# Altium footprint library ResistorSMD.PcbLib: 6 footprints
Each footprint in its own frame and in the unit in brackets; x right, y up, seen from the top. Pads: shape width x height; smd on the part's side, far side on the other; paste and mask are expansions set on the pad; w line width, h text height; cw(c..) or ccw(c..) is an arc to the next point about the centre after c.
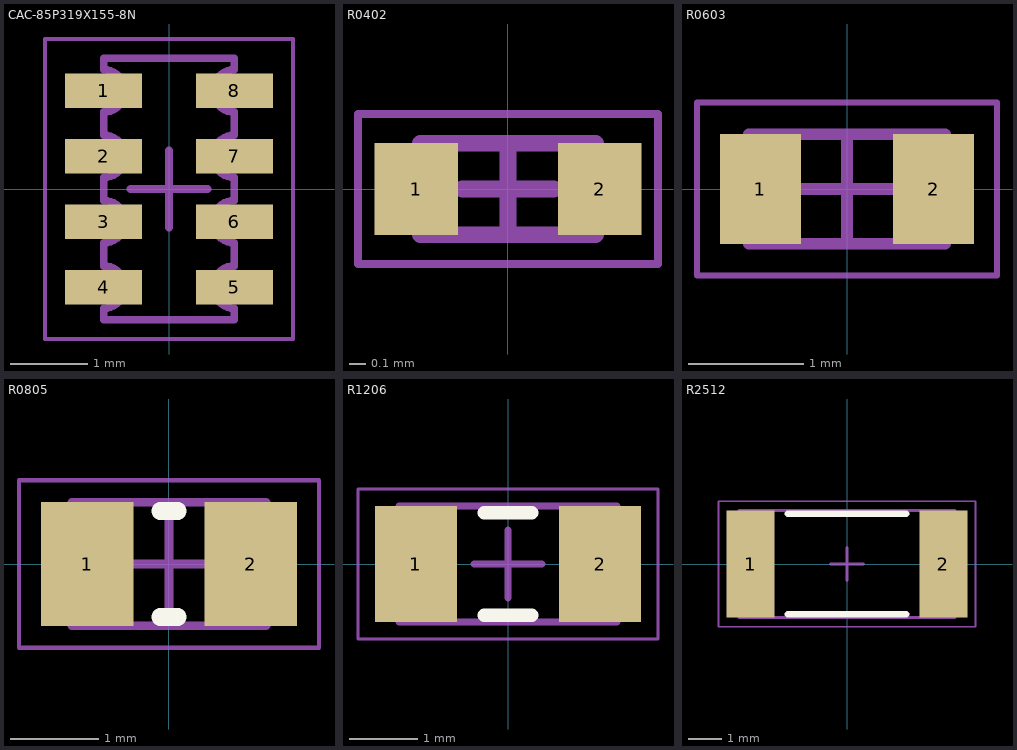
[diagram p0: the footprints below, top view; thin cyan lines are the x and y axes]

## CAC-85P319X155-8N [mm] "Chip Array, Concave, 8-Leads, Pitch 0,85mm,  Body 3,20x1,55mm,  IPC Medium Density"
height 0.6
pads (8):
  rect 1x0.45 smd: 1(-0.85,1.275) 2(-0.85,0.425) 3(-0.85,-0.425) 4(-0.85,-1.275) 5(0.85,-1.275) 6(0.85,-0.425) 7(0.85,0.425) 8(0.85,1.275)
Mechanical 13:
  lines w0.1: -0.85,-1.7 -0.85,-1.55 ccw(c-0.85,-1.275) -0.85,-1 -0.85,-0.7 ccw(c-0.85,-0.425) -0.85,-0.15 -0.85,0.15 ccw(c-0.85,0.425) -0.85,0.7 -0.85,1 ccw(c-0.85,1.275) -0.85,1.55 -0.85,1.7 0.85,1.7 0.85,1.55 ccw(c0.85,1.275) 0.85,1 0.85,0.7 ccw(c0.85,0.425) 0.85,0.15 0.85,-0.15 ccw(c0.85,-0.425) 0.85,-0.7 0.85,-1 ccw(c0.85,-1.275) 0.85,-1.55 0.85,-1.7 -0.85,-1.7
Mechanical 15:
  lines w0.05: -1.61,-1.95 -1.61,1.95 1.61,1.95 1.61,-1.95 -1.61,-1.95
  lines w0.1: -0.5,0 0.5,0 ; 0,-0.5 0,0.5
3D body "CAC-85P319X155-8N.step": height 0.6, standoff 0, extent -0.95,-1.7 0.95,1.7

## R0402 [mm] "Chip Resistor, 2-Leads, Body 1,00x0,50mm, IPC Medium Density"
height 0.55
pads (2):
  rect 0.5x0.55 smd: 1(-0.55,0) 2(0.55,0)
Mechanical 13:
  lines w0.1: -0.525,-0.275 -0.525,0.275 0.525,0.275 0.525,-0.275 -0.525,-0.275
Mechanical 15:
  lines w0.05: -0.9,-0.45 -0.9,0.45 0.9,0.45 0.9,-0.45 -0.9,-0.45
  lines w0.1: -0.275,0 0.275,0 ; 0,-0.275 0,0.275
3D body "User Library-res0402-1.step": height 0.3, standoff 0, extent -0.5,-0.25 0.5,0.25

## R0603 [mm] "Chip Resistor, 2-Leads, Body 1,60x0,85mm, IPC Medium Density"
height 0.5
pads (2):
  rect 0.7x0.95 smd: 1(-0.75,0) 2(0.75,0)
Mechanical 13:
  lines w0.1: -0.85,-0.475 0.85,-0.475 0.85,0.475 -0.85,0.475 -0.85,-0.475
Mechanical 15:
  lines w0.05: -1.3,-0.75 1.3,-0.75 1.3,0.75 -1.3,0.75 -1.3,-0.75
  lines w0.1: -0.475,0 0.475,0 ; 0,-0.475 0,0.475
3D body "User Library-res0603-1.step": height 0.4, standoff 0, extent -0.8,-0.4 0.8,0.4

## R0805 [mm] "Chip Resistor, 2-Leads, Body 2,10x1,30mm, IPC Medium Density"
height 0.55
pads (2):
  rect 1.05x1.4 smd: 1(-0.925,0) 2(0.925,0)
Top Overlay:
  lines w0.2: -0.1,-0.6 0.1,-0.6 ; -0.1,0.6 0.1,0.6
Mechanical 13:
  lines w0.1: -1.1,-0.7 1.1,-0.7 1.1,0.7 -1.1,0.7 -1.1,-0.7
Mechanical 15:
  lines w0.05: -1.7,-0.95 1.7,-0.95 1.7,0.95 -1.7,0.95 -1.7,-0.95
  lines w0.1: -0.5,0 0.5,0 ; 0,-0.5 0,0.5
3D body "User Library-res0805-1.step": height 0.5, standoff 0, extent -1,-0.625 1,0.625

## R1206 [mm] "Chip Resistor, 2-Leads, Body 3,10x1,60mm, IPC Medium Density"
height 0.55
pads (2):
  rect 1.2x1.7 smd: 1(-1.35,0) 2(1.35,0)
Top Overlay:
  lines w0.2: -0.35,-0.75 0.35,-0.75 ; -0.35,0.75 0.35,0.75
Mechanical 13:
  lines w0.1: -1.6,-0.85 -1.6,0.85 1.6,0.85 1.6,-0.85 -1.6,-0.85
Mechanical 15:
  lines w0.05: -2.2,-1.1 -2.2,1.1 2.2,1.1 2.2,-1.1 -2.2,-1.1
  lines w0.1: -0.5,0 0.5,0 ; 0,-0.5 0,0.5
3D body "RESC3116X06N.step": height 0.55, standoff 0, extent -1.6,-0.85 1.6,0.85

## R2512 [mm]
height 0.8
pads (2):
  rect 1.45x3.25 smd: 1(-2.925,0) 2(2.925,0)
Top Overlay:
  lines w0.2: -1.8,-1.525 1.8,-1.525 ; -1.8,1.525 1.8,1.525
Mechanical 13:
  lines w0.1: -3.275,-1.625 3.275,-1.625 3.275,1.625 -3.275,1.625 -3.275,-1.625
Mechanical 15:
  lines w0.05: -3.9,-1.9 3.9,-1.9 3.9,1.9 -3.9,1.9 -3.9,-1.9
  lines w0.1: -0.5,0 0.5,0 ; 0,-0.5 0,0.5
3D body "User Library-R_2512.step": height 0.6, standoff 0, extent -3.2,-1.6 3.2,1.6
3D body: height 0.8, standoff 0, extent 2.695,-1.625 3.275,1.625
3D body: height 0.8, standoff 0, extent -3.275,-1.625 -2.695,1.625